# EAGLE library part MCP6002T-I/MS (library MCP6002T)
Low-Power Op Amp
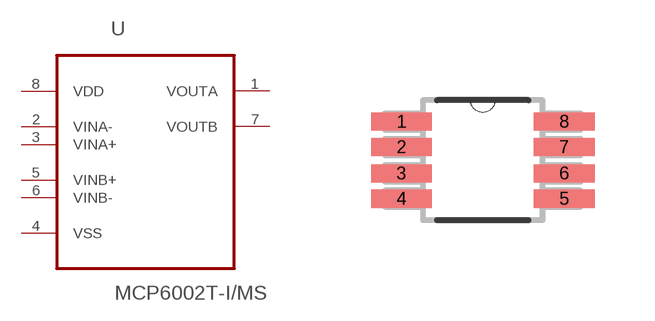
[diagram p0: symbol with the pads of SOP65P490X110-8N; footprint SOP65P490X110-8N]

Designator prefix -

## MCP6002T-I/MS (Availability: Unavailable; Description: MCP6002 Series 6 V 1 MHz 0.6 V/us SMT Low-Power Operational Amplifier - MSOP-8; MF: Microchip; MP: MCP6002T-I/MS; Package: MSOP-8 Microchip; Price: None)  [SOP65P490X110-8N]
1  VOUTA  out
2  VINA-  in
3  VINA+  in
4  VSS  pwr
5  VINB+  in
6  VINB-  in
7  VOUTB  out
8  VDD  pwr

## Footprint SOP65P490X110-8N (pad centres in mm)
smd 1.524 x 0.457: 1 -2.032,0.965; 2 -2.032,0.33; 3 -2.032,-0.33; 4 -2.032,-0.965; 5 2.032,-0.965; 6 2.032,-0.33; 7 2.032,0.33; 8 2.032,0.965